# EAGLE library part CY7C65642 (library NASA Parts Lib)
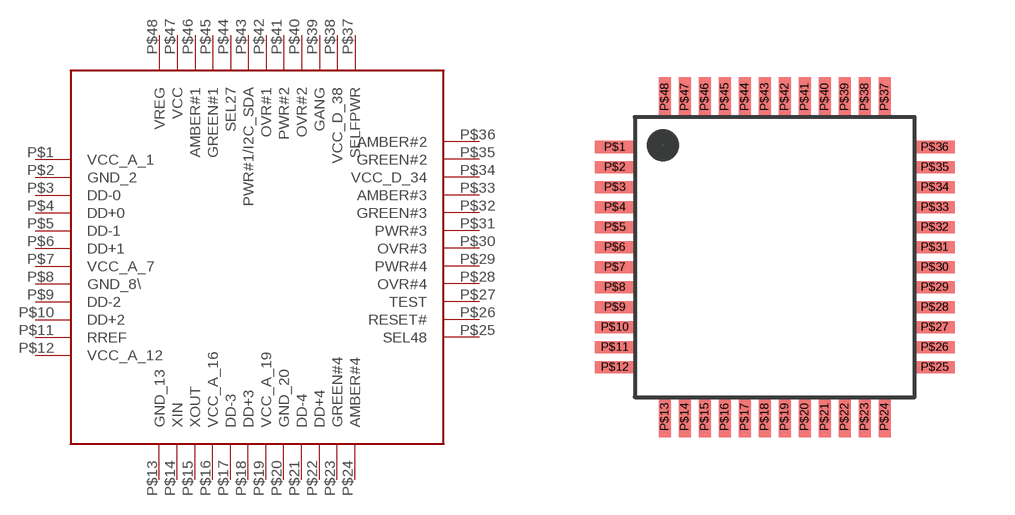
[diagram p1: symbol with the pads of TQFP-48; footprint TQFP-48]

Designator prefix -

## CY7C65642  [TQFP-48]
P$1  VCC_A_1
P$2  GND_2
P$3  DD-0
P$4  DD+0
P$5  DD-1
P$6  DD+1
P$7  VCC_A_7
P$8  GND_8\
P$9  DD-2
P$10  DD+2
P$11  RREF
P$12  VCC_A_12
P$13  GND_13
P$14  XIN
P$15  XOUT
P$16  VCC_A_16
P$17  DD-3
P$18  DD+3
P$19  VCC_A_19
P$20  GND_20
P$21  DD-4
P$22  DD+4
P$23  GREEN#4
P$24  AMBER#4
P$25  SEL48
P$26  RESET#
P$27  TEST
P$28  OVR#4
P$29  PWR#4
P$30  OVR#3
P$31  PWR#3
P$32  GREEN#3
P$33  AMBER#3
P$34  VCC_D_34
P$35  GREEN#2
P$36  AMBER#2
P$37  SELFPWR
P$38  VCC_D_38
P$39  GANG
P$40  OVR#2
P$41  PWR#2
P$42  OVR#1
P$43  PWR#1/I2C_SDA
P$44  SEL27
P$45  GREEN#1
P$46  AMBER#1
P$47  VCC
P$48  VREG

## Footprint TQFP-48 (pad centres in mm)
smd 1 x 0.3: P$1 -0.5,6.25; P$2 -0.5,5.75; P$3 -0.5,5.25; P$4 -0.5,4.75; P$5 -0.5,4.25; P$6 -0.5,3.75; P$7 -0.5,3.25; P$8 -0.5,2.75; P$9 -0.5,2.25; P$10 -0.5,1.75; P$11 -0.5,1.25; P$12 -0.5,0.75; P$25 7.5,0.75; P$26 7.5,1.25; P$27 7.5,1.75; P$28 7.5,2.25; P$29 7.5,2.75; P$30 7.5,3.25; P$31 7.5,3.75; P$32 7.5,4.25; P$33 7.5,4.75; P$34 7.5,5.25; P$35 7.5,5.75; P$36 7.5,6.25
smd 0.3 x 1: P$13 0.75,-0.5; P$14 1.25,-0.5; P$15 1.75,-0.5; P$16 2.25,-0.5; P$17 2.75,-0.5; P$18 3.25,-0.5; P$19 3.75,-0.5; P$20 4.25,-0.5; P$21 4.75,-0.5; P$22 5.25,-0.5; P$23 5.75,-0.5; P$24 6.25,-0.5; P$37 6.25,7.5; P$38 5.75,7.5; P$39 5.25,7.5; P$40 4.75,7.5; P$41 4.25,7.5; P$42 3.75,7.5; P$43 3.25,7.5; P$44 2.75,7.5; P$45 2.25,7.5; P$46 1.75,7.5; P$47 1.25,7.5; P$48 0.75,7.5